# Altium footprint library Ek_footprint.PcbLib: 18 footprints (part 1 of 2)
Each footprint in its own frame and in the unit in brackets; x right, y up, seen from the top. Pads: shape width x height; smd on the part's side, far side on the other; paste and mask are expansions set on the pad; w line width, h text height; cw(c..) or ccw(c..) is an arc to the next point about the centre after c.
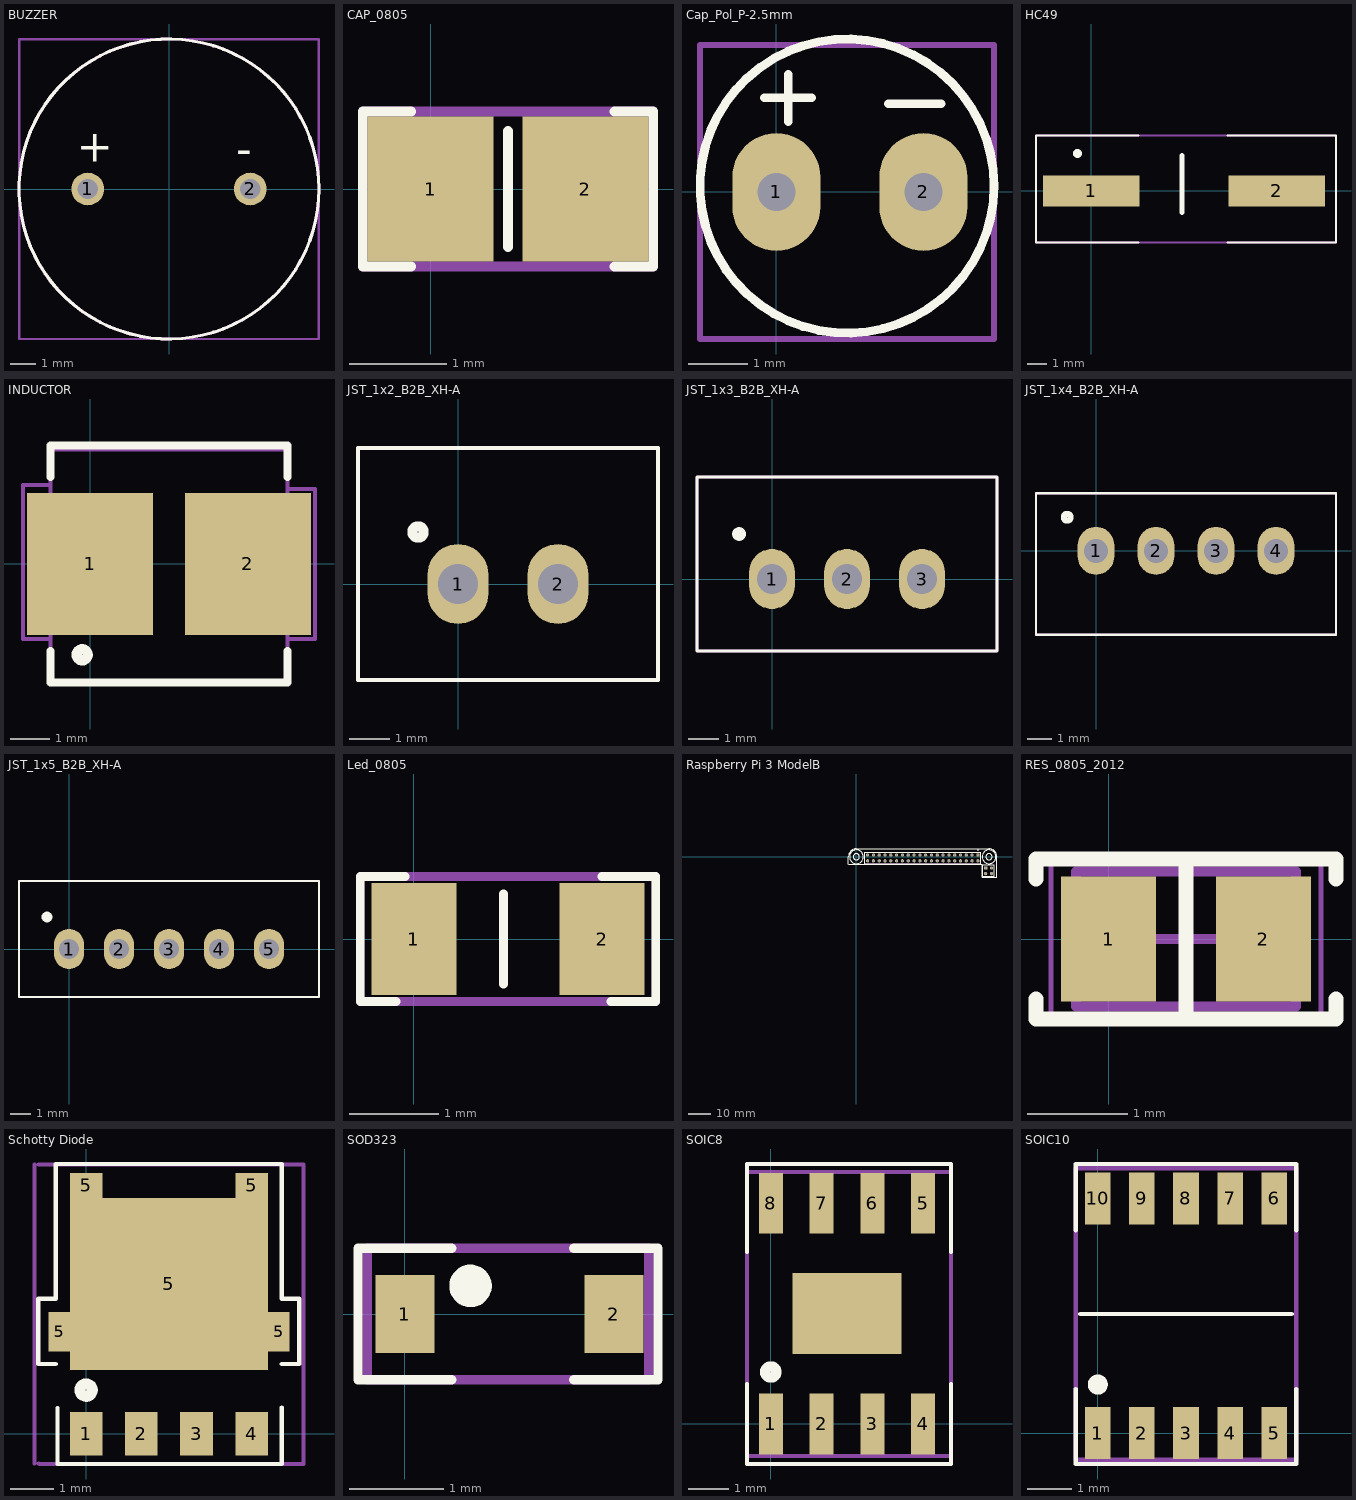
[diagram p0: the footprints below, top view; thin cyan lines are the x and y axes]

## BUZZER [mm]
pads (2):
  round 1.308 hole 0.8: 1(-3.25,0) 2(3.25,0)
Top Overlay:
  circle w0.127: c0,0 r6
  text "-" at 2.7,1 h1.27
  text "+" at -3.7,1.1 h1.27
Mechanical 1:
  lines w0.1: -6,-6 6,-6 6,6 -6,6 -6,-6
Mechanical 13:
  circle w0.127: c0,0 r6
3D body "CUI_DEVICES_CEM-1201_50_.step": height 7.56, standoff -6.44, extent -6,-6 6,6

## CAP_0805 [mm]
pads (2):
  rect 1.3x1.5 smd mask+0.05: 1(0,0) 2(1.6,0)
Top Overlay:
  lines w0.1: -0.2,-0.8 -0.7,-0.8 -0.7,0.8 -0.2,0.8 ; 0.8,-0.6 0.8,0.6 ; 1.9,-0.8 2.3,-0.8 2.3,0.8 1.9,0.8
Mechanical 1:
  lines w0.1: -0.7,-0.8 -0.7,0.8 2.3,0.8 2.3,-0.8 -0.7,-0.8
3D body "User Library-Chip Cap_MLCC_0805 (2012)_B (1).step": height 0.8, standoff 0, extent -0.2,-0.65 1.8,0.6

## Cap_Pol_P-2.5mm [mm]
pads (2):
  oval 1.5x2 hole 0.65 mask+0.05: 1(0,0) 2(2.5,0)
Top Overlay:
  circle w0.15: c1.2,0.1 r2.5
  lines w0.15: -0.2,1.6 0.6,1.6 ; 0.2,1.2 0.2,2 ; 1.9,1.5 2.8,1.5
Mechanical 1:
  lines w0.1: -1.3,-2.5 -1.3,2.5 3.7,2.5 3.7,-2.5 -1.3,-2.5
3D body "User Library-CAPAER_D050_L085_P025_W005X030.STEP": height 8.51, standoff -3, extent -1.305,-2.5 3.705,2.5

## HC49 [mm]
pads (2):
  rect 4.91x1.57 smd: 1(0,0) 2(9.4,0)
Top Overlay:
  circle w0.254: c-0.7,1.9 r0.1
  lines w0.1: 2.4,-2.6 -2.8,-2.6 -2.8,0.3 -2.8,2.8 2.4,2.8 ; 6.9,-2.6 12.1,-2.6 12.4,-2.6 12.4,2.8 6.9,2.8
  lines w0.254: 4.6,-1.1 4.6,1.8
Mechanical 1:
  lines w0.1: -2.8,-2.6 -2.8,2.8 12.4,2.8 12.4,-2.6 -2.8,-2.6
3D body "crystal-smd.STEP": height 4.3, standoff 0, extent -2,-2.4 11.5,2.6

## INDUCTOR [mm]
pads (2):
  rect 3.2x3.6 smd: 1(0,0) 2(4,0)
Top Overlay:
  circle w0.254: c-0.2,-2.3 r0.141
  lines w0.2: -1,-2.2 -1,-3 5,-3 5,-2.2 ; -1,2.2 -1,3 5,3 5,2.2
Mechanical 1:
  lines w0.1: -1.7,-1.9 -1,-1.9 -1,-3 5,-3 5,-1.9 5.7,-1.9 5.7,1.9 5,1.9 5,2.9 -1,2.9 -1,2 -1.7,2 -1.7,-1.9
Mechanical 13:
  lines w0.1: -1,-3 -1,3 5,3 5,-3 -1,-3
3D body "INDP2523X23N.step": height 5.1, standoff 0, extent -0.95,-2.85 4.95,2.85

## JST_1x2_B2B_XH-A [mm] "JST_B2B_XH-A1x2 PCB Header"
pads (2):
  oval 1.524x2 hole 1 mask+0.05: 1(0,0) 2(2.5,0)
Top Overlay:
  circle w0.254: c-1,1.3 r0.141
  lines w0.1: -2.5,-2.4 5,-2.4 5,3.4 -2.5,3.4 -2.5,-2.4
Mechanical 1:
  lines w0.1: -2.5,-2.4 -2.5,3.4 5,3.4 5,-2.4 -2.5,-2.4
3D body "User Library-PW10-XX-M white.step": height 7, standoff -3.3, extent -2.5,-2.35 5,3.35

## JST_1x3_B2B_XH-A [mm]
pads (3):
  oval 1.524x2 hole 1 mask+0.05: 1(0,0) 2(2.5,0) 3(5,0)
Top Overlay:
  circle w0.254: c-1.1,1.5 r0.1
  lines w0.1: -2.5,-2.4 7.5,-2.4 7.5,3.4 -2.5,3.4 -2.5,-2.4
Mechanical 1:
  lines w0.1: -2.5,-2.4 -2.5,3.4 7.5,3.4 7.5,-2.4 -2.5,-2.4
3D body "JST_B2B_XH-A1x3.step": height 7.5, standoff -2.9, extent -2.45,-2.375 7.45,3.375

## JST_1x4_B2B_XH-A [mm]
pads (4):
  oval 1.524x2 hole 1 mask+0.05: 1(0,0) 2(2.5,0) 3(5,0) 4(7.5,0)
Top Overlay:
  circle w0.254: c-1.2,1.4 r0.141
  lines w0.1: -2.5,-3.5 10,-3.5 10,2.4 -2.5,2.4 -2.5,-3.5
Mechanical 1:
  lines w0.1: -2.5,-3.5 -2.5,2.4 10,2.4 10,-3.5 -2.5,-3.5
3D body "JST_B2B_XH-A_1x4.step": height 7.5, standoff -2.9, extent -2.5,-3.4 9.9,2.35

## JST_1x5_B2B_XH-A [mm]
pads (5):
  oval 1.524x2 hole 1 mask+0.05: 1(0,0) 2(2.5,0) 3(5,0) 4(7.5,0) 5(10,0)
Top Overlay:
  circle w0.254: c-1.1,1.6 r0.141
  lines w0.1: -2.5,-2.4 12.4,-2.4 12.5,-2.4 12.5,3.4 -2.5,3.4 -2.5,-2.4
Mechanical 1:
  lines w0.1: -2.5,-2.4 12.5,-2.4 12.5,3.4 -2.5,3.4 -2.5,-2.4
3D body "JST_B2B_XH-A1x5.step": height 7.5, standoff -2.9, extent -2.45,-2.35 12.45,3.4

## Led_0805 [mm]
pads (2):
  rect 0.95x1.25 smd mask+0.05: 1(0,0) 2(2.1,0)
Top Overlay:
  lines w0.1: -0.2,-0.7 -0.6,-0.7 -0.6,0.7 -0.1,0.7 ; 1,-0.5 1,0.5 ; 2.1,0.7 2.3,0.7 2.7,0.7 2.7,-0.7 2.2,-0.7
Mechanical 1:
  lines w0.1: -0.6,-0.7 -0.6,0.7 2.7,0.7 2.7,-0.7 -0.6,-0.7
3D body "LED_0805.STEP": height 0.78, standoff -0.02, extent 0.03,-0.625 2.03,0.625

## Raspberry Pi 3 ModelB [mm]
pads (44):
  round 1.398 hole 0.89: 1(4.94,-1.84) 2(4.94,0.7) 3(7.48,-1.84) 4(7.48,0.7) 5(10.02,-1.84) 6(10.02,0.7) 7(12.56,-1.84) 8(12.56,0.7) 9(15.1,-1.84) 10(15.1,0.7) 11(17.64,-1.84) 12(17.64,0.7) 13(20.18,-1.84) 14(20.18,0.7) 15(22.72,-1.84) 16(22.72,0.7) 17(25.26,-1.84) 18(25.26,0.7) 19(27.8,-1.84) 20(27.8,0.7) 21(30.34,-1.84) 22(30.34,0.7) 23(32.88,-1.84) 24(32.88,0.7) 25(35.42,-1.84) 26(35.42,0.7) 27(37.96,-1.84) 28(37.96,0.7) 29(40.5,-1.84) 30(40.5,0.7) 31(43.04,-1.84) 32(43.04,0.7) 33(45.58,-1.84) 34(45.58,0.7) 35(48.12,-1.84) 36(48.12,0.7) 37(50.66,-1.84) 38(50.66,0.7) 39(53.2,-1.84) 42(59.125,-4.91) 43(56.585,-7.45) 44(59.125,-7.45)
  rect 1.398x1.398 hole 0.89: 40(53.2,0.7) 41(56.585,-4.91)
Top Overlay:
  circle w0.1: c0.045,-0.07 r1.35
  circle w0.1: c0.045,-0.07 r3
  circle w0.1: c58.045,-0.07 r1.35
  circle w0.1: c58.045,-0.07 r3
  circle w0.2: c53.2,2.94 r0.1
  lines w0.1: -3.455,-3.3 -3.455,-0.07 cw(c0.045,-0.07) 0.045,3.43 58.045,3.43 cw(c58.045,-0.07) 61.545,-0.07 61.545,-9 55.1,-9 ; -3.4,-3.3 54.1,-3.3 55.05,-3.3 ; 55.1,-8.95 55.1,-7.525 55.1,-4.675 55.1,-3.3
  lines w0.127: 3.735,-3.08 54.405,-3.08 54.405,1.94 3.735,1.94 3.735,-3.08 ; 55.345,-8.68 55.345,-3.66 60.365,-3.66 60.365,-8.68 55.345,-8.68
Mechanical 1:
  region: -69.68,-75.495
Mechanical 4:
  circle w0.2: c53.2,2.94 r0.1
  lines w0.127: 3.735,-3.08 3.735,1.94 ; 3.735,-3.08 3.735,1.94 ; 3.735,-3.08 54.405,-3.08 ; 3.735,-3.08 54.405,-3.08 ; 3.735,1.94 54.405,1.94 ; 3.735,1.94 54.405,1.94 ; 54.405,-3.08 54.405,1.94 ; 54.405,-3.08 54.405,1.94
3D body "poe.STEP": height 3.04, standoff -13.66, extent 55.065,-8.66 60.645,-3.66
3D body "pin header.STEP": height 3.08, standoff -13.62, extent 3.395,-3.145 54.695,1.855

## RES_0805_2012 [mm]
pads (2):
  rect 0.95x1.25 smd: 1(0,0) 2(1.55,0)
Top Overlay:
  lines w0.15: -0.725,-0.6 -0.725,-0.8 2.275,-0.8 2.275,-0.6 ; -0.725,0.6 -0.725,0.8 2.275,0.8 2.275,0.6 ; 0.775,-0.8 0.775,0.8
Mechanical 13:
  lines w0.1: -0.325,-0.675 1.875,-0.675 1.875,0.675 -0.325,0.675 -0.325,-0.675
Mechanical 15:
  lines w0.05: -0.575,-0.8 2.125,-0.8 2.125,0.8 -0.575,0.8 -0.575,-0.8
  lines w0.1: 0.275,0 1.275,0 ; 0.775,-0.5 0.775,0.5
3D body "0805 resistor.STEP": height 0.6, standoff 0, extent -0.175,-0.625 1.825,0.625

## Schotty Diode [mm]
pads (9):
  rect 0.75x1 smd: 1(0,0) 2(1.27,0) 3(2.54,0) 4(3.81,0)
  rect 0.495x0.905 smd: 5(-0.623,2.342) 5(4.433,2.342)
  rect 0.75x0.575 smd: 5(0,5.708) 5(3.81,5.708)
  rect 4.56x3.955 smd: 5(1.905,3.443)
Top Overlay:
  circle w0.254: c0,1 r0.141
  lines w0.1: -0.7,1.6 -1.1,1.6 -1.1,3.1 -0.7,3.1 -0.7,6.2 4.5,6.2 4.5,3.1 4.9,3.1 4.9,1.6 4.5,1.6 ; -0.657,0.59 -0.657,-0.7 4.5,-0.7 4.5,-0.5 4.5,0.6
Top Paste:
  region: 0.654,4.902 3.155,4.902 3.155,2.017 0.654,2.017
Mechanical 1:
  lines w0.1: -1.187,-0.689 -1.187,3.094 -1.187,6.187 ; -1.087,-0.689 -1.076,-0.7 5,-0.7 5,6.187 -1.087,6.187
3D body "User Library-DFN5x6_SO8FL.STEP": height 1.13, standoff 0, extent -0.65,-0.075 4.5,6.075

## SOD323 [mm]
pads (2):
  rect 0.63x0.83 smd mask+0.05: 1(0,0) 2(2.23,0)
Top Overlay:
  circle w0.254: c0.7,0.3 r0.1
  lines w0.1: 0.5,-0.7 -0.5,-0.7 -0.5,0.7 0.5,0.7 ; 1.8,-0.7 2.7,-0.7 2.7,0.7 1.8,0.7
Mechanical 1:
  lines w0.1: -0.4,-0.7 -0.4,0.7 2.6,0.7 2.6,-0.7 -0.4,-0.7
3D body "User Library-SOD323-1.step": height 1.1, standoff 0, extent -0.2,-0.7 2.4,0.65

## SOIC8 [mm]
pads (9):
  rect 0.6x1.52 smd mask+0.05: 1(0,0.001) 2(1.27,0.001) 3(2.54,0.001) 4(3.81,0.001) 5(3.81,5.521) 6(2.54,5.521) 7(1.27,5.521) 8(0,5.521)
  rect 2.72x2.03 smd mask+0.05: ""(1.905,2.761)
Top Overlay:
  circle w0.254: c0,1.3 r0.141
  lines w0.1: -0.6,1 -0.6,-0.8 -0.6,-0.9 -0.6,-1 0.8,-1 4.5,-1 4.5,-0.9 4.5,1 ; -0.6,4.3 -0.6,6.5 0.1,6.5 4.5,6.5 4.5,4.3
Mechanical 1:
  lines w0.1: -0.6,-0.8 4.5,-0.8 4.5,6.3 3.225,6.3 0.675,6.3 -0.6,6.3 -0.6,-0.2 ; -0.6,-0.8 -0.6,-0.2 ; -0.6,-0.8 -0.6,-0.2
3D body "8SIOC.stp": height 1.95, standoff 0, extent -0.6,-0.299 4.404,5.899

## SOIC10 [mm]
pads (10):
  rect 0.58x1.18 smd mask+0.05: 1(0,0) 2(1,0) 3(2,0) 4(3,0) 5(4,0) 6(4,5.32) 7(3,5.32) 8(2,5.32) 9(1,5.32) 10(0,5.32)
Top Overlay:
  circle w0.254: c0,1.1 r0.1
  lines w0.1: -0.5,1 -0.5,-0.7 ; -0.5,4.6 -0.5,5.9 -0.5,6.1 -0.3,6.1 4.4,6.1 4.5,6.1 4.5,6 4.5,4.6 ; -0.4,2.7 0,2.7 4,2.7 4.4,2.7 ; 4.5,1 4.5,-0.6 4.5,-0.7 4.4,-0.7 -0.5,-0.7 ; -0.5,-0.7 -0.5,-0.7
Mechanical 1:
  lines w0.1: -0.5,-0.6 -0.5,6 4.5,6 4.5,-0.6 -0.5,-0.6
3D body "User Library-Case751BQ.STEP": height 1.75, standoff 0, extent -0.45,-0.3 4.45,5.7